# Altium integrated library CON-JACK.IntLib: 1 symbol
Pins are listed as number, name and electrical type; pins without a type are passive.

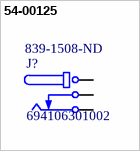
[diagram p0: symbol 54-00125]

## 54-00125
designator J?, comment 694106301002  Supplier Part Number 2: 839-1508-ND
CONN JACK R/A PCB 3.5X1.1MM; Manufacturer: Wurth Electronics Inc.; Gender: Male; Industry Recognized Mating Diameter: 2.10mm ID (0.083"), 5.50mm OD (0.217"); Actual Diameter: 0.081" (2.05mm ID), 0.252" (6.40mm OD); Number of Positions/Contacts: 2 Conductors, 3 Contacts; Internal Switch(s): Single Switch, Normally Closed; Shielding: Unshielded; Voltage - Rated: 24VDC; Current Rating: 5A; Mating Length/Depth: 0.354" (9.00mm); Body Color: Black; Material Flammability Rating: UL94 V-0; Supplier 1: Digi-Key; Manufacturer Part Number: 694106301002; RoHS: RoHS Compliant; Category: Connectors, Interconnects; Stock 1: 8980; Pricing 1: 1=1.05, 10=0.923, 50=0.8322, 100=0.796, 500=0.65124, 1000=0.57888, 2500=0.551 (USD); Packaging: Bulk; Part Status: Active; Connector Type: Jack; Mounting Type: Through Hole, Right Angle; Mounting Feature: -; Termination: Solder Eyelet(s); Features: -; Insulation Color: -; Contact Material - Plating: Tin; Body Material: -; Operating Temperature: -40°C ~ 85°C; Includes: -; Housing Material: Polyamide (PA66), Nylon 6/6; Contact Material: Copper Alloy; Thread Size: -; Ingress Protection: -; ComponentLink1URL: http://katalog.we-online.de/em/datasheet/6941xx301002.pdf; ComponentLink1Description: http://katalog.we-online.de/em/datasheet/6941xx301002.pdf; Value: 694106301002; Supplier Part Number 1: 732-5930-ND; Supplier 2: Digi-Key
footprint 54-00125 (CONN JACK R/A PCB 3.5X1.1MM)
pins: A S, B T, C TN